# Altium footprint library Alcetronics_Devices.PcbLib: 71 footprints (part 1 of 5)
Each footprint in its own frame and in the unit in brackets; x right, y up, seen from the top. Pads: shape width x height; smd on the part's side, far side on the other; paste and mask are expansions set on the pad; w line width, h text height; cw(c..) or ccw(c..) is an arc to the next point about the centre after c.
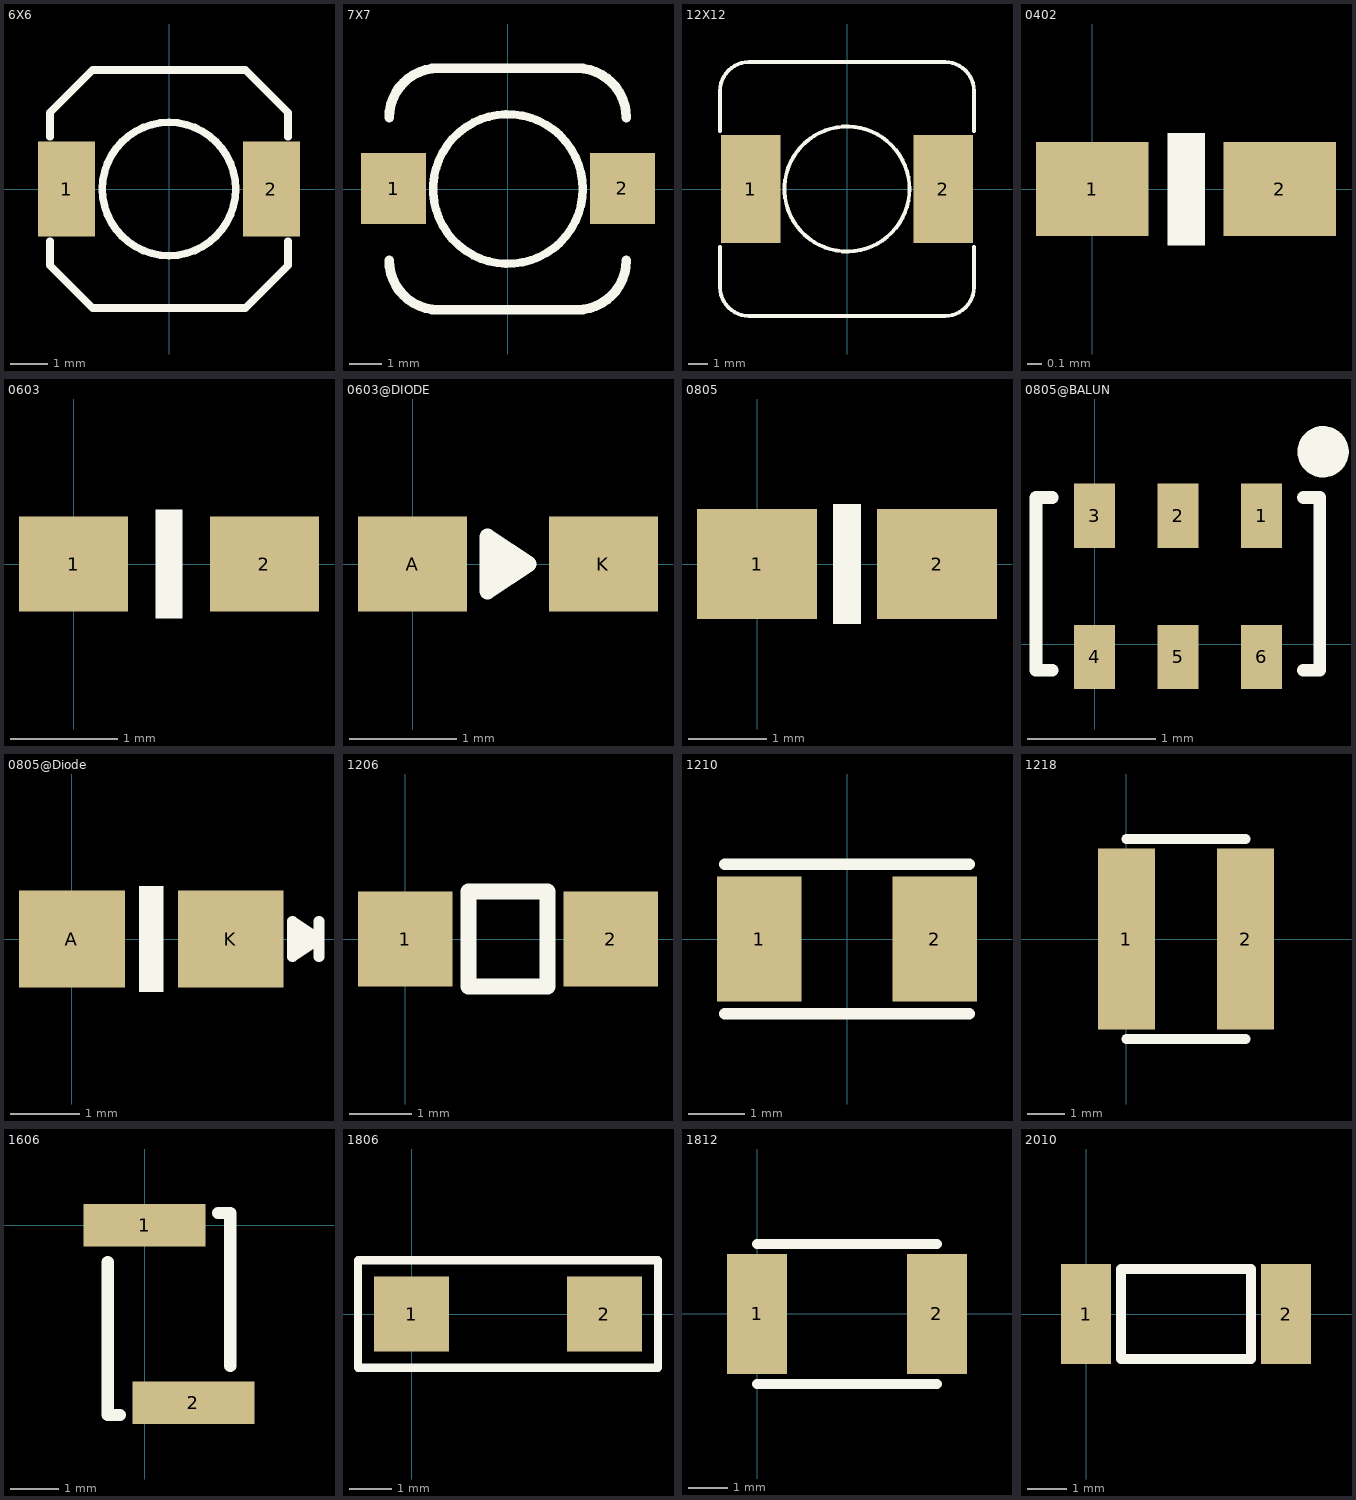
[diagram p0: the footprints below, top view; thin cyan lines are the x and y axes]

## 6X6 [mil]
height 120
pads (2):
  rect 60x100 smd: 1(-107.5,0) 2(107.5,0)
Top Overlay:
  circle w8: c0,0 r70
  lines w8: -125,-55 -125,-80 -80,-125 80,-125 125,-80 125,-55 ; -125,55 -125,80 -80,125 80,125 125,80 125,55

## 7X7 [mm] "Package 7x7mm"
height 4
pads (2):
  rect 2x2.2 smd: 1(-3.535,0.01) 2(3.55,0.02)
Top Overlay:
  circle w0.254: c0.005,0 r2.315
  lines w0.3: -3.672,-2.209 ccw(c-2.141,-2.21) -2.143,-3.74 2.137,-3.74 ccw(c2.139,-2.21) 3.669,-2.212 ; -3.672,2.209 cw(c-2.141,2.21) -2.143,3.74 2.137,3.74 cw(c2.139,2.21) 3.669,2.212

## 12X12 [mm] "Package 12x12mm"
height 8
pads (2):
  rect 3.1x5.6 smd: 1(-5,0) 2(5,0)
Top Overlay:
  circle w0.2: c0,0 r3.25
  lines w0.2: -6.6,-3 -6.6,-5.1 ccw(c-5.1,-5.1) -5.1,-6.6 5.1,-6.6 ccw(c5.1,-5.1) 6.6,-5.1 6.6,-3 ; -6.6,3 -6.6,5.1 cw(c-5.1,5.1) -5.1,6.6 5.1,6.6 cw(c5.1,5.1) 6.6,5.1 6.6,3

## 0402 [mil]
height 78.74
pads (2):
  rect 30x25 smd: 1(0,0) 2(50,0)
Top Overlay:
  rectangle: 20,-15 30,15

## 0603 [mil]
pads (2):
  rect 40x35 smd: 1(0,0) 2(70,0)
Top Overlay:
  rectangle: 30,-20 40,20

## 0603@DIODE [mil]
height 393.7
pads (2):
  rect 40x35 smd: A(0,0) K(70,0)
Top Overlay:
  lines w6: 27.5,-5 32.5,0 ; 27.5,5 32.5,0 ; 32.5,0 42.5,0 ; 42.5,0 27.5,-10 27.5,10 42.5,0

## 0805 [mil]
pads (2):
  rect 60x55 smd: 1(0,0) 2(90,0)
Top Overlay:
  rectangle: 38,-30 52,30

## 0805@BALUN [mm]
pads (6):
  rect 0.32x0.5 smd: 1(1.3,1) 2(0.65,1) 3(0,1) 4(0,-0.1) 5(0.65,-0.1) 6(1.3,-0.1)
Top Overlay:
  circle w0.2: c1.78,1.499 r0.1
  lines w0.1: -0.33,-0.203 -0.457,-0.203 -0.457,1.143 -0.33,1.143 ; 1.626,-0.203 1.753,-0.203 1.753,1.143 1.626,1.143

## 0805@Diode [mil]
pads (2):
  rect 60x55 smd: A(0,0) K(90,0)
Top Overlay:
  rectangle: 38,-30 52,30
  lines w6: 125,-5 130,0 ; 125,5 130,0 ; 140,-10 140,10 ; 130,0 140,0 ; 140,0 125,10 125,-10 140,0

## 1206 [mil]
height 43.31
pads (2):
  rect 60x60 smd: 1(0,0) 2(130,0)
Top Overlay:
  lines w10: 40,-30 90,-30 90,30 40,30 40,-30

## 1210 [mm] "2-pin 1210 outline"
height 2.2
pads (2):
  rect 1.5x2.2 smd: 1(-1.55,0) 2(1.55,0)
Top Overlay:
  lines w0.203: -2.159,-1.321 2.159,-1.321 ; -2.159,1.321 2.159,1.321

## 1218 [mil]
height 22
pads (2):
  rect 60x190 smd: 1(0,0) 2(125,0)
Top Overlay:
  lines w10: 0,-105 125,-105 ; 0,105 125,105

## 1606 [mil]
height 65
pads (2):
  rect 100x35 smd: 1(0,0) 2(40,-145)
Top Overlay:
  lines w10: -30,-30 -30,-155 -20,-155 ; 60,10 70,10 70,-115

## 1806 [mil]
pads (2):
  rect 70x70 smd: 1(0,0) 2(180,0)
Top Overlay:
  lines w7.87: -50,-50 -50,50 230,50 230,-50 -50,-50

## 1812 [mil]
height 125.98
pads (2):
  rect 60x120 smd: 1(0,0) 2(180,0)
Top Overlay:
  lines w10: 0,-70 180,-70 ; 0,70 180,70

## 2010 [mil]
pads (2):
  rect 50x100 smd: 1(0,0) 2(200,0)
Top Overlay:
  lines w10: 35,-45 35,45 165,45 165,-45 35,-45